# Altium footprint library Ale.PcbLib: 181 footprints (part 5 of 12)
Each footprint in its own frame and in the unit in brackets; x right, y up, seen from the top. Pads: shape width x height; smd on the part's side, far side on the other; paste and mask are expansions set on the pad; w line width, h text height; cw(c..) or ccw(c..) is an arc to the next point about the centre after c.
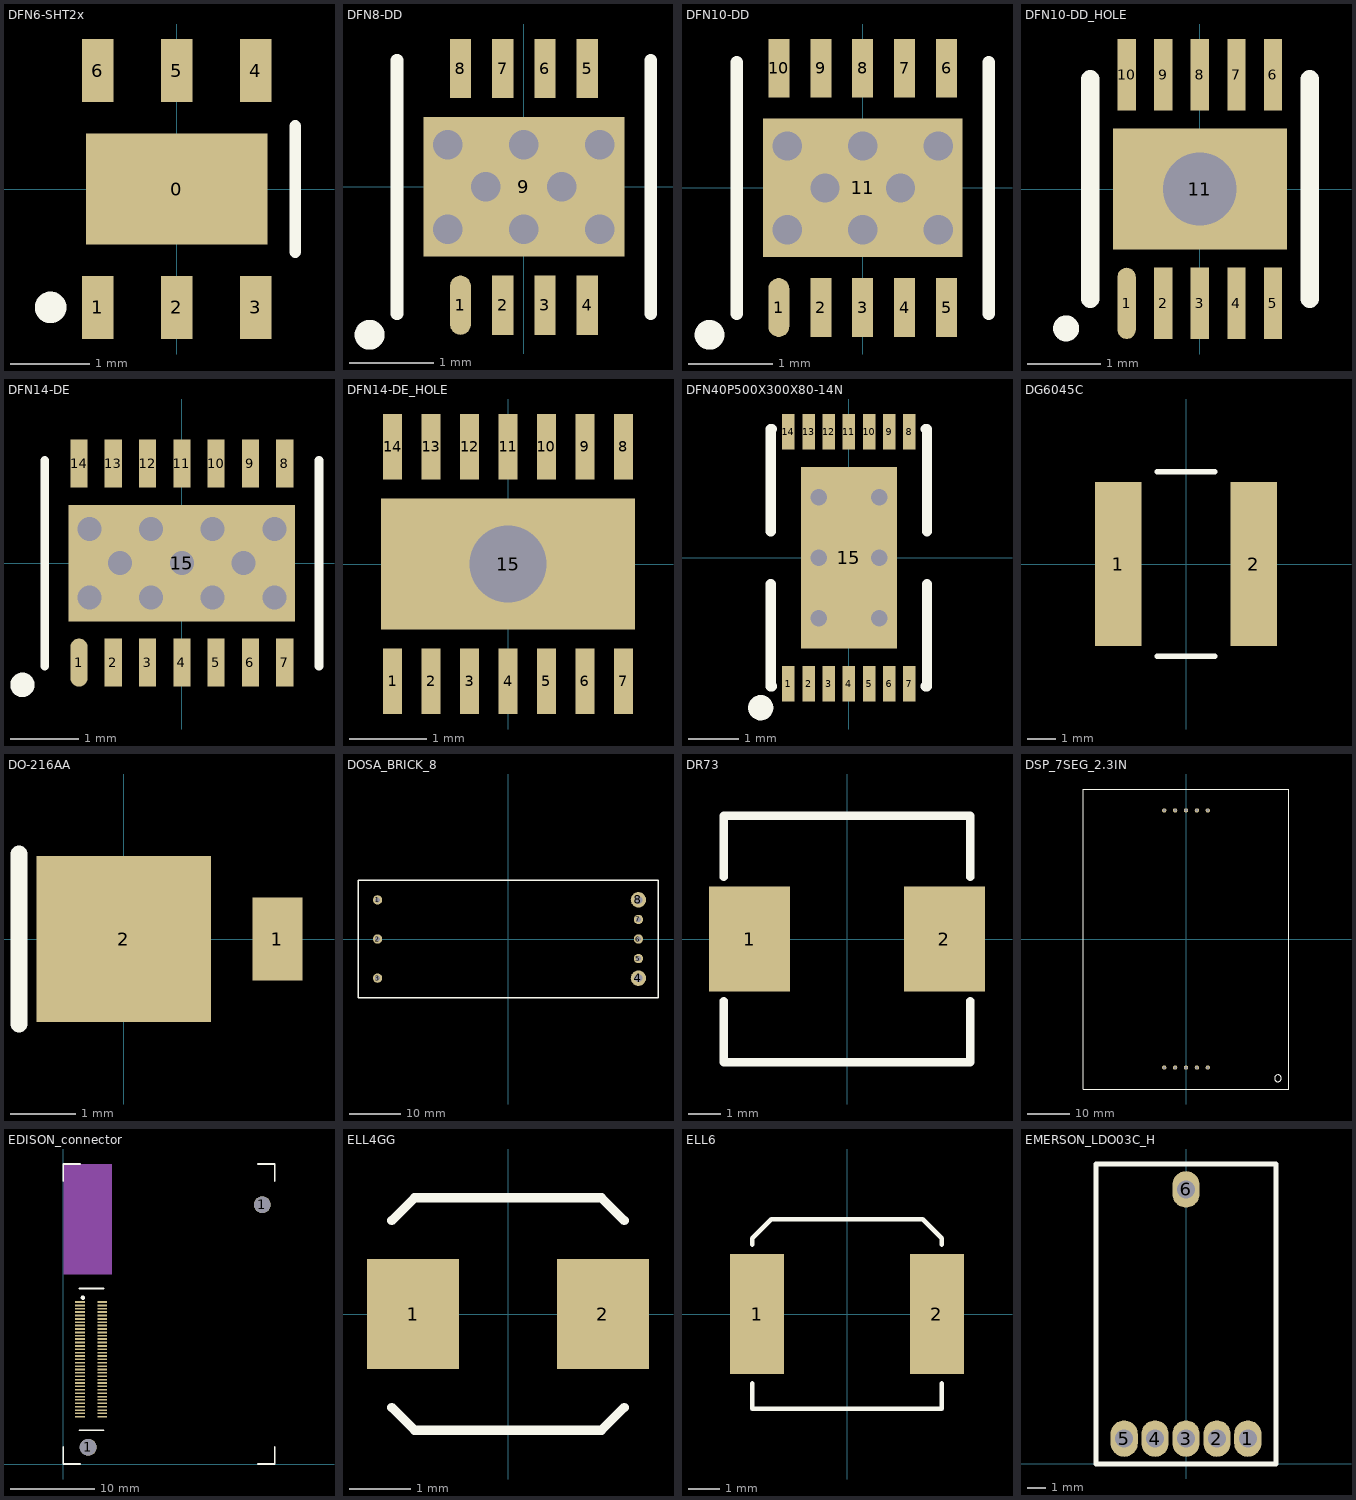
[diagram p4: the footprints below, top view; thin cyan lines are the x and y axes]

## DFN6-SHT2x [mm] "Sensirion SHT2x DFN-6 package"
height 1.1
pads (7):
  rect 2.3x1.4 smd: 0(0,0)
  rect 0.4x0.8 smd: 1(-1,-1.5) 2(0,-1.5) 3(1,-1.5) 4(1,1.5) 5(0,1.5) 6(-1,1.5)
Top Overlay:
  circle w0.2: c-1.6,-1.5 r0.1
  lines w0.15: 1.5,-0.8 1.5,0.8
3D body "SHT2x.STEP": height 1.1, standoff 0, extent -1.5,-1.5 1.5,1.5

## DFN8-DD [mm] "10-Lead Plastic DFN (3 x 3 mm)"
height 0.75
pads (9):
  oval 0.25x0.7 smd: 1(-0.75,-1.4)
  rect 0.25x0.7 smd: 2(-0.25,-1.4) 3(0.25,-1.4) 4(0.75,-1.4) 5(0.75,1.4) 6(0.25,1.4) 7(-0.25,1.4) 8(-0.75,1.4)
  rect 2.38x1.65 all layers, no hole: 9(0,0)
via 0.9,-0.5 diameter 0.5 hole 0.35
via 0.9,0.5 diameter 0.5 hole 0.35
via 0,0.5 diameter 0.5 hole 0.35
via 0.45,0 diameter 0.5 hole 0.35
via 0,-0.5 diameter 0.5 hole 0.35
via -0.9,-0.5 diameter 0.5 hole 0.35
via -0.45,0 diameter 0.5 hole 0.35
via -0.9,0.5 diameter 0.5 hole 0.35
Top Overlay:
  circle w0.254: c-1.825,-1.75 r0.05
  lines w0.15: -1.5,-1.5 -1.5,1.5 ; 1.5,-1.5 1.5,1.5
3D body: height 0.75, standoff 0, extent -1.5,-1.5 1.5,1.5

## DFN10-DD [mm] "10-Lead Plastic DFN (3 x 3 mm)"
height 0.75
pads (11):
  oval 0.25x0.7 smd: 1(-1,-1.425)
  rect 0.25x0.7 smd: 2(-0.5,-1.425) 3(0,-1.425) 4(0.5,-1.425) 5(1,-1.425) 6(1,1.425) 7(0.5,1.425) 8(0,1.425) 9(-0.5,1.425) 10(-1,1.425)
  rect 2.38x1.65 all layers, no hole: 11(0,0)
via -0.9,0.5 diameter 0.5 hole 0.35
via -0.45,0 diameter 0.5 hole 0.35
via -0.9,-0.5 diameter 0.5 hole 0.35
via 0,-0.5 diameter 0.5 hole 0.35
via 0.45,0 diameter 0.5 hole 0.35
via 0,0.5 diameter 0.5 hole 0.35
via 0.9,0.5 diameter 0.5 hole 0.35
via 0.9,-0.5 diameter 0.5 hole 0.35
Top Overlay:
  circle w0.254: c-1.825,-1.75 r0.05
  lines w0.15: -1.5,-1.5 -1.5,1.5 ; 1.5,-1.5 1.5,1.5
3D body: height 0.75, standoff 0, extent -1.5,-1.5 1.5,1.5

## DFN10-DD_HOLE [mm] "10-Lead Plastic DFN (3 x 3 mm) with soldering hole"
height 0.75
pads (11):
  oval 0.25x0.975 smd: 1(-1,-1.563)
  rect 0.25x0.975 smd: 2(-0.5,-1.563) 3(0,-1.563) 4(0.5,-1.563) 5(1,-1.563) 6(1,1.563) 7(0.5,1.563) 8(0,1.563) 9(-0.5,1.563) 10(-1,1.563)
  rect 2.38x1.65 hole 1: 11(0,0)
Top Overlay:
  circle w0.254: c-1.828,-1.905 r0.05
  lines w0.254: -1.5,-1.5 -1.5,1.5 ; 1.5,-1.5 1.5,1.5
3D body: height 0.75, standoff 0, extent -1.627,-1.627 1.627,1.627

## DFN14-DE [mm] "14-Lead Plastic DFN (4 x 3 mm)"
height 0.75
pads (15):
  oval 0.25x0.7 smd: 1(-1.5,-1.45)
  rect 0.25x0.7 smd: 2(-1,-1.45) 3(-0.5,-1.45) 4(0,-1.45) 5(0.5,-1.45) 6(1,-1.45) 7(1.5,-1.45) 8(1.5,1.45) 9(1,1.45) 10(0.5,1.45) 11(0,1.45) 12(-0.5,1.45) 13(-1,1.45) 14(-1.5,1.45)
  rect 3.3x1.7 all layers, no hole: 15(0,0)
via -1.35,0.5 diameter 0.5 hole 0.35
via -0.9,0 diameter 0.5 hole 0.35
via -1.35,-0.5 diameter 0.5 hole 0.35
via -0.45,-0.5 diameter 0.5 hole 0.35
via -0.45,0.5 diameter 0.5 hole 0.35
via 0.45,0.5 diameter 0.5 hole 0.35
via 0.45,-0.5 diameter 0.5 hole 0.35
via 0.9,0 diameter 0.5 hole 0.35
via 0,0 diameter 0.5 hole 0.35
via 1.35,-0.5 diameter 0.5 hole 0.35
via 1.35,0.5 diameter 0.5 hole 0.35
Top Overlay:
  circle w0.254: c-2.325,-1.775 r0.05
  lines w0.127: -2,-1.5 -2,1.5 ; 2,-1.5 2,1.5
3D body: height 0.75, standoff 0, extent -2,-1.5 2,1.5

## DFN14-DE_HOLE [mm] "14-Lead Plastic DFN (4 x 3 mm)"
height 0.75
pads (15):
  rect 0.25x0.85 smd: 1(-1.5,-1.525) 2(-1,-1.525) 3(-0.5,-1.525) 4(0,-1.525) 5(0.5,-1.525) 6(1,-1.525) 7(1.5,-1.525) 8(1.5,1.525) 9(1,1.525) 10(0.5,1.525) 11(0,1.525) 12(-0.5,1.525) 13(-1,1.525) 14(-1.5,1.525)
  rect 3.3x1.7 / inner round 1.524 / far side round 1.524 hole 1: 15(0,0)
3D body: height 0.75, standoff 0, extent -2,-1.5 2,1.5

## DFN40P500X300X80-14N [mm] "DFN, 14-Leads, Body 3.1x5.1mm (max), Pitch 0.40mm, IPC Medium Density"
height 0.8
pads (15):
  rect 0.25x0.7 smd: 1(-1.2,-2.5) 2(-0.8,-2.5) 3(-0.4,-2.5) 4(0,-2.5) 5(0.4,-2.5) 6(0.8,-2.5) 7(1.2,-2.5) 8(1.2,2.5) 9(0.8,2.5) 10(0.4,2.5) 11(0,2.5) 12(-0.4,2.5) 13(-0.8,2.5) 14(-1.2,2.5)
  rect 1.9x3.6 smd: 15(0,0)
via -0.6,-1.2 diameter 0.66 hole 0.33
via -0.6,0 diameter 0.66 hole 0.33
via -0.6,1.2 diameter 0.66 hole 0.33
via 0.6,-1.2 diameter 0.66 hole 0.33
via 0.6,0 diameter 0.66 hole 0.33
via 0.6,1.2 diameter 0.66 hole 0.33
Top Overlay:
  circle w0.25: c-1.75,-2.975 r0.125
  lines w0.2: -1.55,-0.525 -1.55,-2.55 -1.525,-2.55 ; -1.55,0.525 -1.55,2.55 -1.525,2.55 ; 1.525,-2.55 1.55,-2.55 1.55,-0.525 ; 1.525,2.55 1.55,2.55 1.55,0.525
3D body: height 0.8, standoff 0.01, extent -1.55,-2.55 1.55,2.55

## DG6045C [mm] "Toko DG6045C inductors"
height 4.5
pads (2):
  rect 1.6x5.7 smd: 1(-2.35,0) 2(2.35,0)
Top Overlay:
  lines w0.2: -1,-3.2 1,-3.2 ; -1,3.2 1,3.2
3D body: height 4.5, standoff 0, extent -3.15,-3.15 3.15,3.15

## DO-216AA [mm] "Diode package (alias powermite, STmite, etc.)"
height 1
pads (2):
  rect 0.762x1.27 smd: 1(2.351,0)
  rect 2.67x2.54 smd: 2(0,0)
Top Overlay:
  lines w0.254: -1.6,-1.3 -1.6,1.3

## DOSA_BRICK_8 [mm] "DOSA isolated 1/8 brick power converter"
height 7.6
pads (8):
  round 1.8 hole 1: 1(-25.4,7.62) 2(-25.4,0) 3(-25.4,-7.62) 5(25.4,-3.81) 6(25.4,0) 7(25.4,3.81)
  round 3 hole 1.6: 4(25.4,-7.62) 8(25.4,7.62)
Top Overlay:
  lines w0.254: -29.21,-11.43 -29.21,11.43 29.21,11.43 29.21,-11.43 -29.21,-11.43
3D body: height 7.62, standoff 0, extent -29.209,-11.429 29.209,11.429

## DR73 [mm] "DR73 Shielded Inductors"
height 3.5
pads (2):
  rect 2.5x3.25 smd: 1(-3,0) 2(3,0)
Top Overlay:
  lines w0.254: -3.8,-1.915 -3.8,-3.8 3.8,-3.8 3.8,-1.915 ; -3.8,1.915 -3.8,3.8 3.8,3.8 3.8,1.915
3D body: height 3.5, standoff 0, extent -3.8,-3.8 3.8,3.8

## DSP_7SEG_2.3IN [mm]
pads (10):
  round 1 hole 0.6: 1(-5.08,-30) 2(-2.54,-30) 3(0,-30) 4(2.54,-30) 5(5.08,-30) 6(5.08,30) 7(2.54,30) 8(0,30) 9(-2.54,30) 10(-5.08,30)
Top Overlay:
  circle w0.254: c21.459,-32.5 r0.791
  lines w0.254: -24,-35 -24,35 24,35 24,-35 -24,-35
3D body: height 12, standoff 0, extent -24.127,-35.127 24.127,35.127

## EDISON_connector [mil] "Intel Edison compute module connector and holes"
height 78.74
pads (72):
  rect 45x8 smd: 1(78,755) 2(182,755) 3(78,739) 4(182,739) 5(78,724) 6(182,724) 7(78,708) 8(182,708) 9(78,692) 10(182,692) 11(78,676) 12(182,676) 13(78,661) 14(182,661) 15(78,645) 16(182,645) 17(78,629) 18(182,629) 19(78,613) 20(182,613) 21(78,598) 22(182,598) 23(78,582) 24(182,582) 25(78,566) 26(182,566) 27(78,550) 28(182,550) 29(78,535) 30(182,535) 31(78,519) 32(182,519) 33(78,503) 34(182,503) 35(78,488) 36(182,488) 37(78,472) 38(182,472) 39(78,456) 40(182,456) 41(78,440) 42(182,440) 43(78,425) 44(182,425) 45(78,409) 46(182,409) 47(78,393) 48(182,393) 49(78,377) 50(182,377) 51(78,362) 52(182,362) 53(78,346) 54(182,346) 55(78,330) 56(182,330) 57(78,314) 58(182,314) 59(78,299) 60(182,299) 61(78,283) 62(182,283) 63(78,267) 64(182,267) 65(78,251) 66(182,251) 67(78,236) 68(182,236) 69(78,220) 70(182,220)
  round 79 hole 79: 1(116,78) 1(927,1208)
Top Overlay:
  circle w12: c91,775 r4
  lines w8: 0,79 0,0 79,0 ; 0,1319 0,1398 79,1398 ; 74,157 187,157 ; 74,818 187,818 ; 906,0 985,0 985,79 ; 906,1398 985,1398 985,1319
Mechanical 27:
  region: 228,1398 0,1398 0,882 228,882
Mechanical 28:
  region: 228,1398 0,1398 0,882 228,882
3D body: height 200.79, standoff 59.06, extent 0,0 984.25,1397.64
3D body: height 78.74, standoff 0, extent 74.02,157.02 186.98,817.98
3D body: height 259.84, standoff 0, extent 858.11,1139.14 995.9,1276.87
3D body: height 259.84, standoff 0, extent 47.11,9.14 184.9,146.87

## ELL4GG [mm] "Panasonic ELL4GG inductors"
height 1.4
pads (2):
  rect 1.5x1.8 smd: 1(-1.55,0) 2(1.55,0)
Top Overlay:
  lines w0.15: -1.9,-1.525 -1.525,-1.9 1.525,-1.9 1.9,-1.525 ; -1.9,1.525 -1.525,1.9 1.525,1.9 1.9,1.525
3D body: height 1.4, standoff 0, extent -1.9,-1.9 1.9,1.9

## ELL6 [mm] "Panasonic ELL6 inductors"
height 3.3
pads (2):
  rect 1.7x3.8 smd: 1(-2.85,0) 2(2.85,0)
Top Overlay:
  lines w0.15: -3,-2.2 -3,-3 3,-3 3,-2.2 ; -3,2.2 -3,2.4 -2.4,3 2.4,3 3,2.4 3,2.2
3D body: height 3.3, standoff 0, extent -3,-3 3,3

## EMERSON_LDO03C_H [mm] "Emerson LDO03C DC/DC converter, horizontal mount"
height 8
pads (6):
  oval 1.5x2 hole 1: 1(3.404,1.397) 2(1.702,1.397) 3(0,1.397) 4(-1.702,1.397) 5(-3.404,1.397) 6(0,15.113)
Top Overlay:
  lines w0.254: -4.953,0 4.953,0 4.953,16.51 -4.953,16.51 -4.953,0
3D body: height 3.17, standoff 0, extent -0.496,14.614 0.5,15.612
3D body: height 3.17, standoff 0, extent 2.908,0.898 3.904,1.896
3D body: height 3.17, standoff 0, extent 1.206,0.898 2.202,1.896
3D body: height 3.17, standoff 0, extent -0.496,0.898 0.5,1.896
3D body: height 3.17, standoff 0, extent -2.198,0.898 -1.202,1.896
3D body: height 3.17, standoff 0, extent -3.899,0.898 -2.903,1.896
3D body: height 8, standoff 4.68, extent -4.952,0.001 4.952,16.509
3D body: height 4.68, standoff 3.18, extent -4.952,0.001 4.952,16.509